# EAGLE library part TPS737XX (library ESPStack-mini)
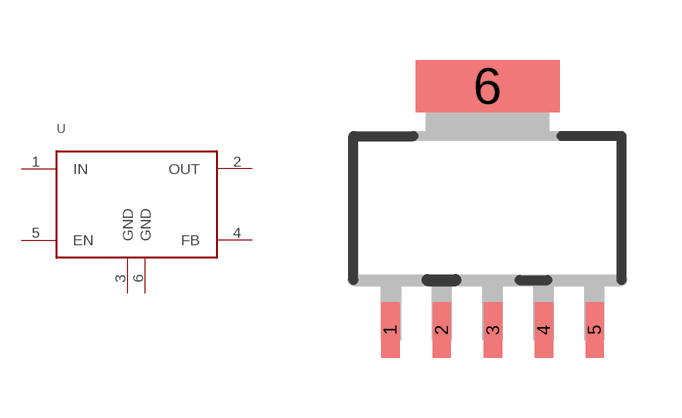
[diagram p2: symbol with the pads of SOT223-6; footprint SOT223-6]

Designator prefix -

## TPS737XX  [SOT223-6]
1  IN  pwr
2  OUT  pwr
3  GND  pwr
4  FB
5  EN
6  GND  pwr

## Footprint SOT223-6 (pad centres in mm)
smd 0.457 x 1.397: 1 -2.427,-4.32; 2 -1.143,-4.32; 3 0.141,-4.32; 4 1.411,-4.32; 5 2.681,-4.32
smd 3.6 x 1.3: 6 0,1.78